# Altium footprint library RCDQLY.PCBLIB: 79 footprints (part 2 of 5)
Each footprint in its own frame and in the unit in brackets; x right, y up, seen from the top. Pads: shape width x height; smd on the part's side, far side on the other; paste and mask are expansions set on the pad; w line width, h text height; cw(c..) or ccw(c..) is an arc to the next point about the centre after c.
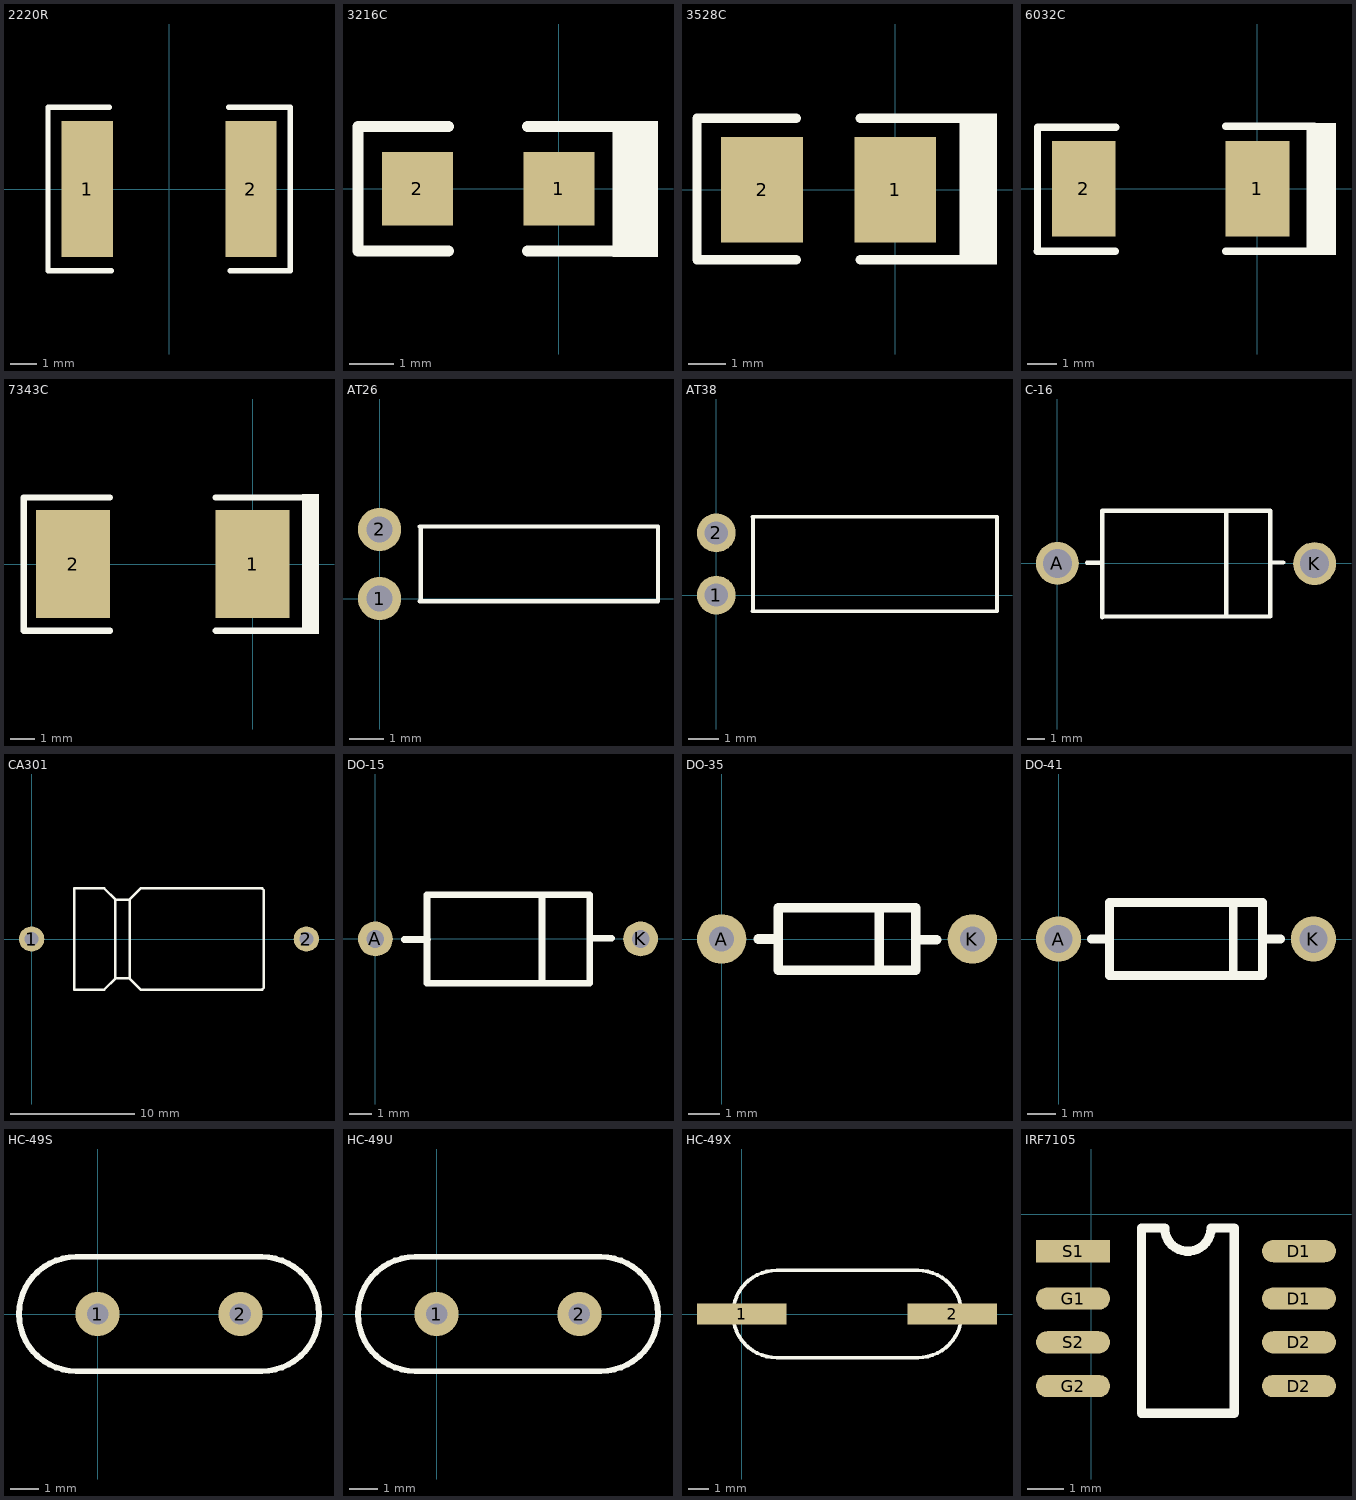
[diagram p1: the footprints below, top view; thin cyan lines are the x and y axes]

## 2220R [mil]
pads (2):
  rect 75x200 smd: 1(-120,0) 2(120,0)
TopOverlay:
  lines w8: -87.5,120 -177.5,120 -177.5,-120 -85,-120 ; 87.5,120 177.5,120 177.5,-120 90,-120

## 3216C [mm]
pads (2):
  rect 1.6x1.65 smd: 1(0,0) 2(-3.175,0)
TopOverlay:
  rectangle: 1.206,-1.537 2.222,1.524
  lines w0.254: -2.476,-1.397 -4.508,-1.397 -4.508,1.397 -2.476,1.397 ; -0.699,-1.397 1.206,-1.397 ; -0.699,1.397 1.206,1.397

## 3528C [mm]
pads (2):
  rect 2.2x2.85 smd: 1(0,0) 2(-3.581,0)
TopOverlay:
  rectangle: 1.727,-2.015 2.743,2.057
  lines w0.254: -2.667,-1.88 -5.334,-1.88 -5.334,1.93 -2.667,1.93 ; -0.94,-1.88 1.727,-1.88 ; -0.94,1.93 1.727,1.93

## 6032C [mm]
pads (2):
  rect 2.2x3.3 smd: 1(0,0) 2(-6,0)
TopOverlay:
  rectangle: 1.699,-2.29 2.715,2.28
  lines w0.254: -7.605,-2.159 -4.905,-2.159 ; -7.6,-2.133 -7.6,2.133 -4.9,2.133 ; -1.095,-2.159 1.831,-2.159 ; -1.095,2.159 1.958,2.159

## 7343C [mm]
pads (2):
  rect 3x4.4 smd: 1(0,0) 2(-7.3,0)
TopOverlay:
  rectangle: 2.008,-2.835 2.7,2.845
  lines w0.254: -5.8,-2.708 -9.308,-2.708 -9.308,2.708 -5.8,2.708 ; -1.5,-2.708 2.008,-2.708 ; -1.5,2.708 2.008,2.708

## AT26 [mil]
pads (2):
  round 50 hole 30: 1(0,0) 2(0,80)
TopOverlay:
  rectangle: 44.72,-3.26 50,83.35
  lines w5: 46.49,-3.26 322.08,-3.26 322.08,83.35 46.49,83.35

## AT38 [mil]
pads (2):
  round 50 hole 30: 1(0,0) 2(0,80.31)
TopOverlay:
  rectangle: 44.72,-20.87 50,101.18
  lines w5: 46.49,-20.87 362.2,-20.87 362.2,101.18 46.49,101.18

## C-16 [mm]
pads (2):
  round 2.5 hole 1.7: A(0,0) K(15,-0.013)
TopOverlay:
  lines w0.254: 1.727,0.025 2.616,0.025 ; 2.616,-3.15 2.616,3.073 12.421,3.073 12.421,-3.099 2.667,-3.099 ; 9.855,-3.099 9.855,3.073 ; 12.421,0.051 13.183,0.051

## CA301 [mil]
pads (2):
  round 80 hole 45: 1(0,0) 2(870,0)
TopOverlay:
  lines w8: 265,-115 265,-125 ; 265,-125 310,-125 ; 265,-125 265,125 ; 265,-125 230,-160 135,-160 135,160 230,160 265,125 ; 265,125 305,125 310,125 ; 310,-125 345,-160 730,-160 735,-155 735,155 730,160 345,160 310,125 ; 310,-125 310,125

## DO-15 [mil]
pads (2):
  round 62 hole 31.5: A(0,0) K(472.44,0)
TopOverlay:
  lines w12: 51.18,-1 93,-1 ; 92,-78.74 381.89,-78.74 ; 92,-78 92,78.48 ; 92,78.74 381.89,78.74 ; 297,-78.74 297,78.74 ; 382,-79 382,78.48 ; 388,1 421.26,1

## DO-35 [mil]
pads (2):
  round 62 hole 31.5: A(0,0) K(314.96,0)
TopOverlay:
  lines w12: 46,0 71,0 ; 198,-39.37 198,39.37 ; 245,-1 270,-1 ; 71,-39.37 71,39.37 244,39.37 244,-39.37 71,-39.37

## DO-41 [mil]
pads (2):
  round 62 hole 38: A(0,0) K(350,0)
TopOverlay:
  lines w12: 45,0 70,0 ; 240,-50 240,50 ; 280,0 305,0 ; 70,-50 280,-50 280,50 70,50 70,-50

## HC-49S [mil]
pads (2):
  round 62 hole 30: 1(0,0) 2(200,0)
TopOverlay:
  lines w8: -30,-80 cw(c-30,0) -30,80 230,80 cw(c230,0) 230,-80 -30,-80

## HC-49U [mil]
pads (2):
  round 62 hole 30: 1(0,0) 2(200,0)
TopOverlay:
  lines w8: -30,-80 cw(c-30,0) -30,80 230,80 cw(c230,0) 230,-80 -30,-80

## HC-49X [mm]
pads (2):
  rect 4.3x1 smd: 1(0,0) 2(10.135,0)
TopOverlay:
  lines w0.178: 1.68,-2.1 cw(c1.68,0) 1.68,2.1 8.48,2.1 cw(c8.48,0) 8.48,-2.1 1.68,-2.1

## IRF7105 [mil]
pads (8):
  oval 80x24 smd: D1(224.41,-91.18) D1(224.41,-40) D2(224.41,-185.67) D2(224.41,-138.43) G1(-19.68,-91.18) G2(-19.68,-185.67) S2(-19.68,-138.43)
  rect 80x24 smd: S1(-19.68,-40)
TopOverlay:
  lines w10: 54.39,-215.06 54.39,-15.06 79.39,-15.06 ccw(c104.39,-15.06) 129.39,-15.06 154.39,-15.06 154.39,-215.06 54.39,-215.06